# Altium footprint library SM-22.PcbLib: 2 footprints
Each footprint in its own frame and in the unit in brackets; x right, y up, seen from the top. Pads: shape width x height; smd on the part's side, far side on the other; paste and mask are expansions set on the pad; w line width, h text height; cw(c..) or ccw(c..) is an arc to the next point about the centre after c.
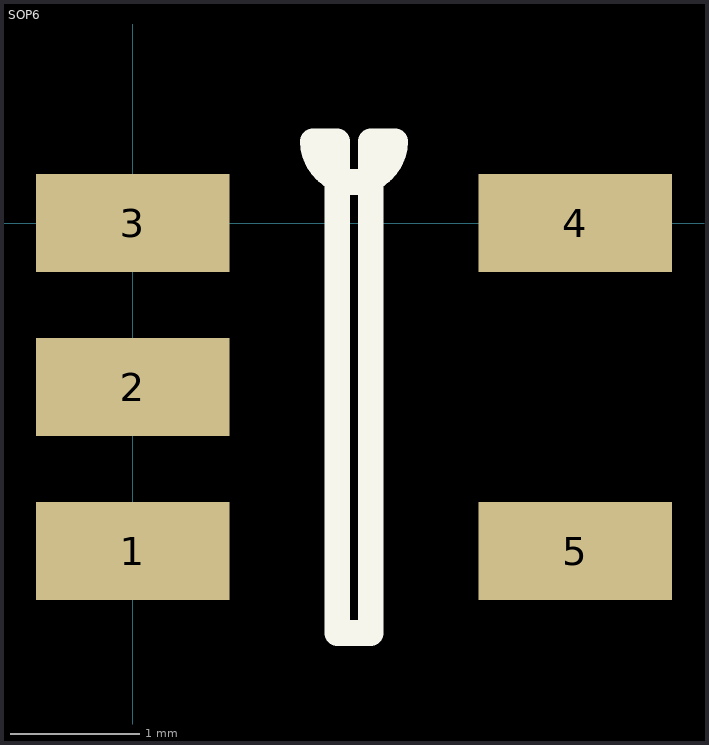
[diagram p0: the footprints below, top view; thin cyan lines are the x and y axes]

## PCBComponent_1 [mm]

## SOP6 [mm]
pads (5):
  rect 1.5x0.76 smd: 1(0,-2.54) 2(0,-1.27) 3(0,0) 4(3.43,0) 5(3.43,-2.54)
Top Overlay:
  lines w0.2: 1.398,0.635 ccw(c1.715,0.635) 2.033,0.635 1.845,0.635 1.845,-3.175 1.585,-3.175 1.585,0.635 1.398,0.635